# Altium footprint library 电容.PCBLIB: 42 footprints (part 3 of 3)
Each footprint in its own frame and in the unit in brackets; x right, y up, seen from the top. Pads: shape width x height; smd on the part's side, far side on the other; paste and mask are expansions set on the pad; w line width, h text height; cw(c..) or ccw(c..) is an arc to the next point about the centre after c.
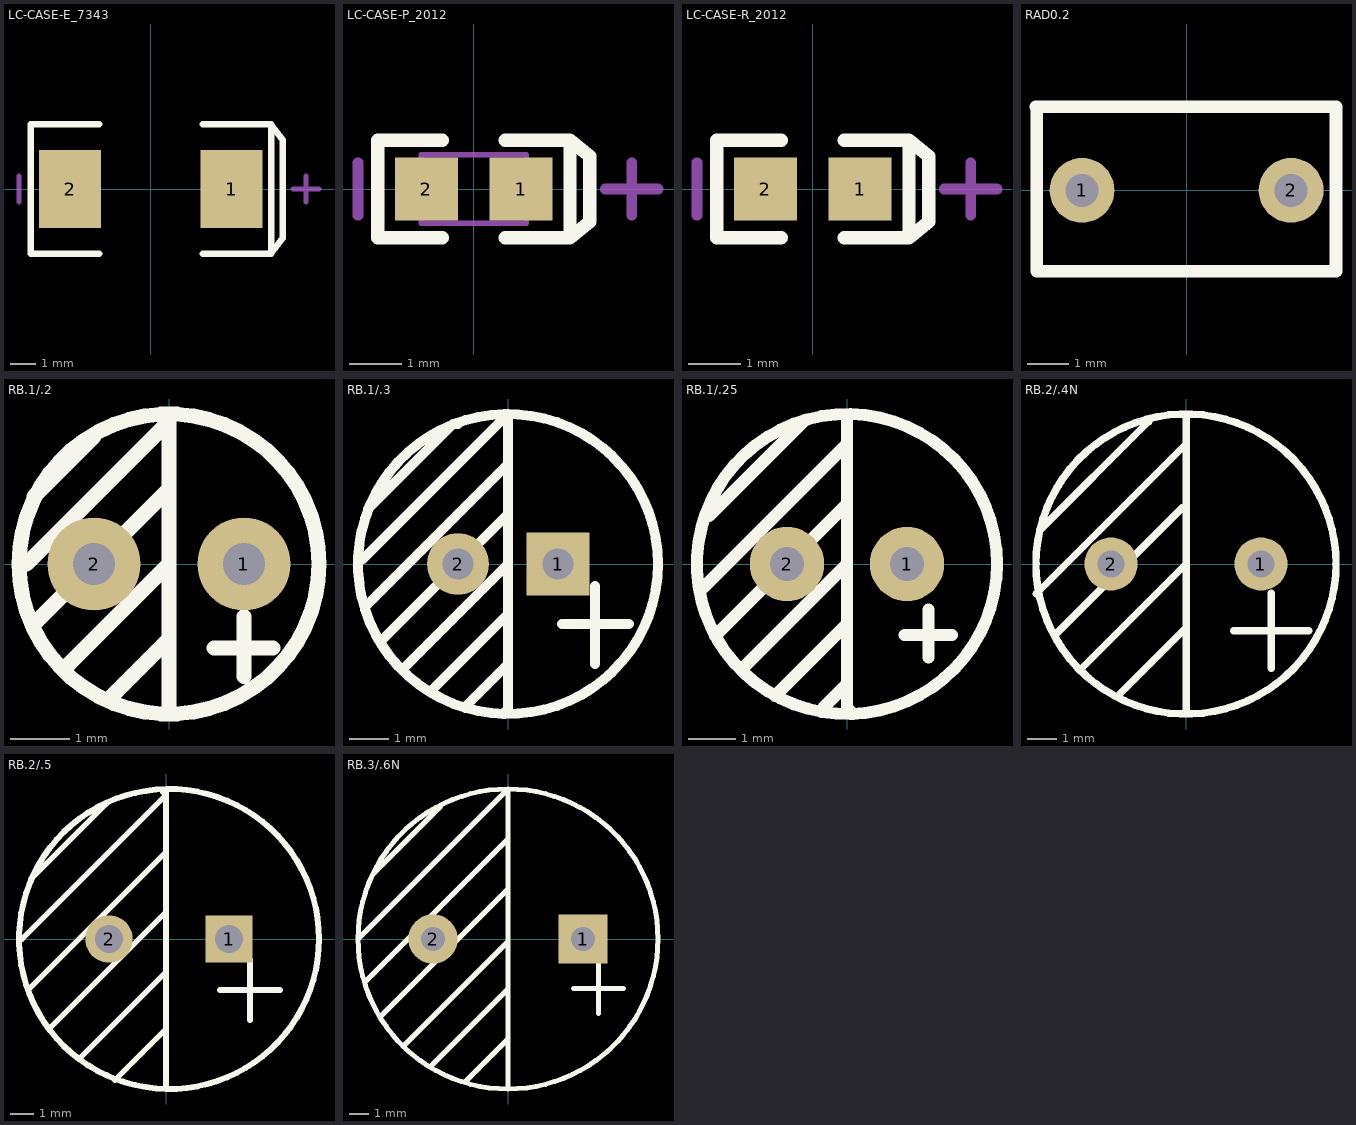
[diagram p2: the footprints below, top view; thin cyan lines are the x and y axes]

## LC-CASE-E_7343 [mm]
pads (2):
  rect 2.4x3 smd: 1(3.12,0) 2(-3.12,0)
TopOverlay:
  lines w0.254: -2,-2.5 -4.647,-2.5 -4.647,2.5 -2,2.5 ; 2,-2.5 4.647,-2.5 ; 2,2.5 4.647,2.5 ; 4.647,-2.5 5.1,-1.9 5.1,1.9 4.647,2.5 ; 4.647,-2.5 4.647,2.5
Mechanical15:
  lines w0.203: -5.1,-0.5 -5.1,0.5 ; 5.5,0 6.5,0 ; 6,-0.5 6,0.5
3D body: height 4.2, standoff 0, extent -3.701,-2.225 3.7,2.225

## LC-CASE-P_2012 [mm]
pads (2):
  rect 1.2x1.2 smd: 1(0.9,0) 2(-0.9,0)
TopOverlay:
  lines w0.254: -0.6,-0.927 -1.827,-0.927 -1.827,0.927 -0.6,0.927 ; 0.6,-0.927 1.827,-0.927 ; 0.6,0.927 1.827,0.927 ; 1.827,-0.927 2.2,-0.623 2.2,0.623 1.827,0.927 ; 1.827,-0.927 1.827,0.927
Mechanical13:
  lines w0.1: -1,-0.65 1,-0.65 1,0.65 -1,0.65 -1,-0.65
Mechanical15:
  lines w0.203: -2.2,-0.5 -2.2,0.5 ; 2.5,0 3.5,0 ; 3,-0.5 3,0.5

## LC-CASE-R_2012 [mm]
pads (2):
  rect 1.2x1.2 smd: 1(0.9,0) 2(-0.9,0)
TopOverlay:
  lines w0.254: -0.6,-0.927 -1.827,-0.927 -1.827,0.927 -0.6,0.927 ; 0.6,-0.927 1.827,-0.927 ; 0.6,0.927 1.827,0.927 ; 1.827,-0.927 2.2,-0.623 2.2,0.623 1.827,0.927 ; 1.827,-0.927 1.827,0.927
Mechanical15:
  lines w0.203: -2.2,-0.5 -2.2,0.5 ; 2.5,0 3.5,0 ; 3,-0.5 3,0.5
3D body: height 1.2, standoff 0, extent -1,-0.65 1,0.65

## RAD0.2 [mil]
pads (2):
  round 62 hole 31.5: 1(-100,0) 2(100,0)
TopOverlay:
  lines w12: -144.09,80 142.91,80 142.91,-77.48 -143.5,-77.48 -143.5,80

## RB.1/.2 [mil]
pads (2):
  round 62 hole 28: 1(50,0) 2(-50,0)
TopOverlay:
  circle w10: c0,0 r100
  lines w10: -95,0 0,95 0,-95 ; -90,-40 0,50 ; -90,45 -50,85 ; -70,-70 0,0 ; -40,-90 0,-50 ; 30,-56 69.37,-56 ; 50,-75 50,-35

## RB.1/.3 [mm]
pads (2):
  rect 1.6x1.6 hole 0.8: 1(1.27,0)
  round 1.575 hole 0.8: 2(-1.27,0)
TopOverlay:
  circle w0.254: c0,0 r3.81
  lines w0.254: -3.683,0.127 0,3.81 0,-3.683 -0.127,-3.81 ; -3.556,-1.016 0,2.54 ; -3.556,1.397 -1.397,3.556 -1.27,3.556 ; -3.175,-1.905 0,1.27 ; -2.667,-2.667 0,0 ; -1.905,-3.175 0,-1.27 ; -1.016,-3.556 0,-2.54 ; 1.372,-1.524 3.073,-1.524 ; 2.21,-2.54 2.21,-0.559

## RB.1/.25 [mil]
pads (2):
  round 62 hole 28: 1(50,0) 2(-50,0)
TopOverlay:
  circle w10: c0,0 r125
  lines w10: -120,-20 0,100 ; -115,40 -35,120 ; -110,-60 0,50 ; -85,-85 0,0 ; -60,-110 0,-50 ; -20,-120 0,-100 0,-105 ; 0,120 0,-120 5,-125 ; 48,-59 87.37,-59 ; 68,-78 68,-38

## RB.2/.4N [mm]
pads (2):
  round 1.8 hole 0.9: 1(2.54,0) 2(-2.54,0)
TopOverlay:
  circle w0.254: c0,0 r5.08
  lines w0.254: -5.08,-1.016 0,4.064 ; -4.953,1.143 -1.27,4.826 ; -4.445,-2.413 -0.127,1.905 0,1.905 ; -3.556,-3.556 0,0 ; -2.286,-4.445 0,-2.159 ; 0,-5.08 0,5.08 ; 1.626,-2.261 4.166,-2.261 ; 2.896,-3.531 2.896,-0.991

## RB.2/.5 [mm]
pads (2):
  rect 2x2 hole 1.2: 1(2.667,0)
  round 2 hole 1.2: 2(-2.413,0)
TopOverlay:
  circle w0.254: c0.127,0 r6.35
  lines w0.254: -6.096,0 0,6.096 0,6.223 ; -5.842,-2.159 0,3.683 0,3.81 ; -5.715,2.54 -2.54,5.715 ; -4.953,-3.81 0,1.143 ; -3.683,-5.08 0,-1.397 0,-1.27 ; -2.159,-5.969 0,-3.81 ; -0.127,6.223 0,6.223 ; 0,-6.35 0,6.223 ; 2.286,-2.159 4.826,-2.159 ; 3.556,-3.429 3.556,-0.889

## RB.3/.6N [mm]
pads (2):
  rect 2.5x2.5 hole 1.2: 1(3.81,0)
  round 2.5 hole 1.2: 2(-3.81,0)
TopOverlay:
  circle w0.254: c0,0 r7.62
  lines w0.254: -7.62,0 -0.127,7.493 0,7.493 0,-7.62 ; -7.239,-2.159 0,5.08 ; -6.858,3.302 -3.429,6.731 ; -6.477,-3.937 0,2.54 ; -5.334,-5.461 0,-0.127 ; -3.937,-6.477 0,-2.54 ; -2.159,-7.239 0,-5.08 ; 0,6.35 0,6.477 ; 3.327,-2.515 5.867,-2.515 ; 4.597,-3.785 4.597,-1.245